# Altium schematic symbol library voltage_regulators.SchLib: 19 symbols
Pins are listed as number, name and electrical type; pins without a type are passive.

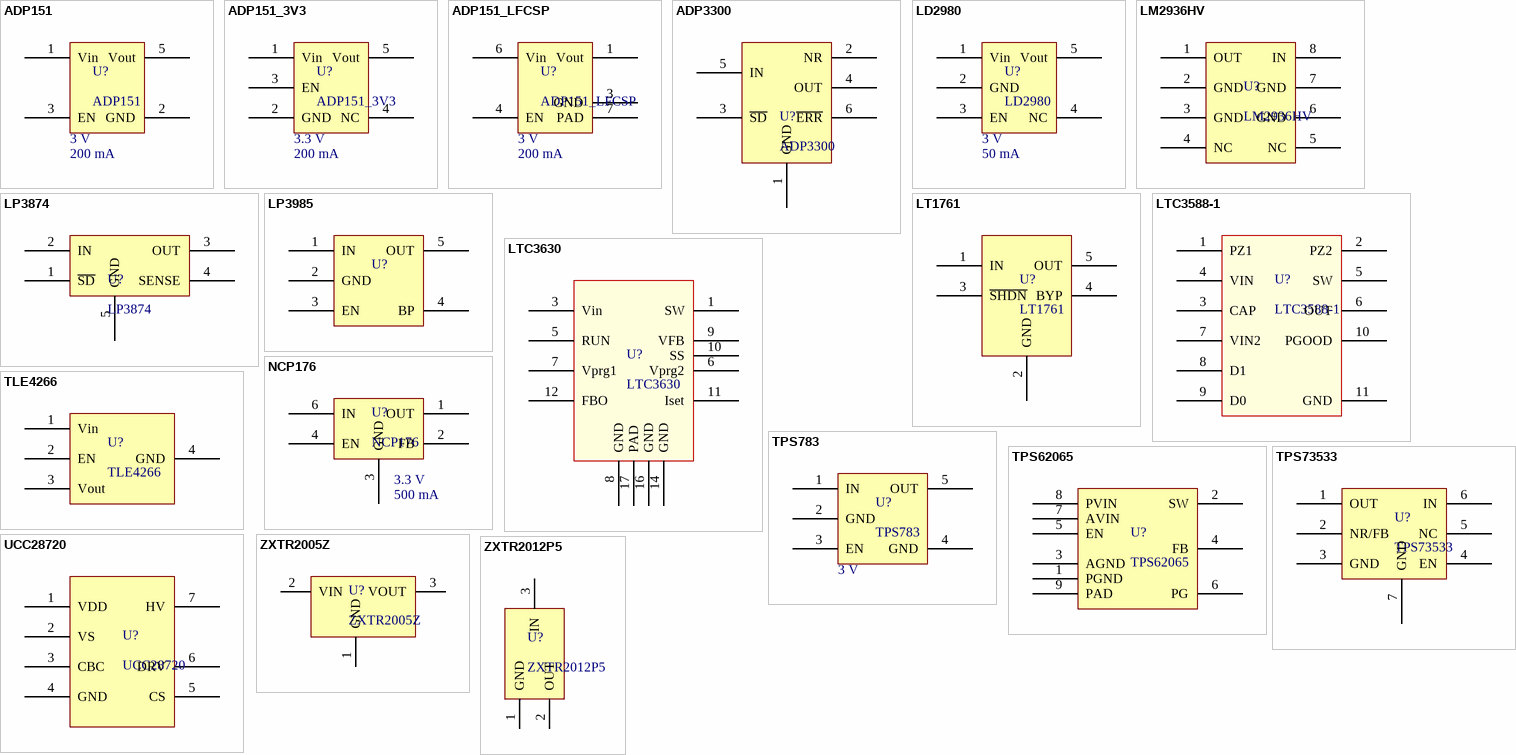
[diagram p0: symbols ADP151 to ZXTR2012P5]

## ADP151
designator U?  Voltage: 3 V  Current: 200 mA
Ultralow Noise, 200 mA,  CMOS Linear Regulator; Supplier 1: Digi-Key; Supplier Part Number 1: ADP151AUJZ-3.0-R7CT-ND
footprint SOT23-5 (SOT23, 5-Leads, Body 2.90x2.45mm, Pitch 0.95mm, IPC Medium Density)
pins: 1 Vin, 2 GND, 3 EN, 5 Vout

## ADP151_3V3
designator U?  Voltage: 3.3 V  Current: 200 mA
Ultralow Noise, 200 mA,  CMOS Linear Regulator; Supplier 1: Digi-Key; Supplier Part Number 1: ADP151AUJZ-3.3-R7CT-ND
footprint SOT23-5 (SOT23, 5-Leads, Body 2.90x2.45mm, Pitch 0.95mm, IPC Medium Density)
pins: 1 Vin, 2 GND, 3 EN, 4 NC, 5 Vout

## ADP151_LFCSP
designator U?  Voltage: 3 V  Current: 200 mA
Ultralow Noise, 200 mA,  CMOS Linear Regulator; Supplier 1: Digi-Key; Supplier Part Number 1: ADP151ACPZ-3.0-R7CT-ND
footprint CP-6-3 (QFN, 6-Leads, Body 2.00x2.00mm, Pitch 0.65mm, Thermal Pad 1.00x1.55mm, IPC Medium Density)
pins: 1 Vout, 3 GND, 4 EN, 6 Vin, 7 PAD

## ADP3300
designator U?
High Accuracy anyCap 50 mA Low Dropout Linear Regulator; Supplier 1: Digi-Key; Supplier Part Number 1: ADP3300ARTZ-5REEL7CT-ND
footprint SOT23-6 (SOT23, 6-Leads, Body 2.90x2.45mm, Pitch 0.95mm, IPC Medium Density)
pins: 1 GND, 2 NR, 3 ~{SD}, 4 OUT, 5 IN, 6 ~{ERR}

## LD2980
designator U?  Voltage: 3 V  Current: 50 mA
Ultra low drop voltage regulators compatible   with low ESR output capacitors; Supplier 1: Digi-Key; Supplier Part Number 1: 497-1516-1-ND
footprint SOT23-5 (SOT23, 5-Leads, Body 2.90x2.45mm, Pitch 0.95mm, IPC Medium Density)
pins: 1 Vin, 2 GND, 3 EN, 4 NC, 5 Vout

## LM2936HV
designator U?
Ultra-Low Quiescent Current LDO Voltage Regulator; Supplier 1: Digi-Key; Supplier Part Number 1: LM2936HVMAX-5.0/NOPBCT-ND
footprint SOIC-8 (SOIC, 8-Leads, Body 4.90x3.90mm, Pitch 1.27mm, IPC Medium Density)
pins: 1 OUT, 2 GND, 3 GND, 4 NC, 5 NC, 6 GND, 7 GND, 8 IN

## LP3874
designator U?
LP387x 0.8-A Fast Ultra-Low-Dropout Linear Regulators; Supplier 1: Digi-Key; Supplier Part Number 1: LP3874EMP-3.3/NOPBCT-ND
footprint SOT150P700X180-5N (SOT223, 5-Leads, Body 6.50x7.00mm (avg), Pitch 1.50mm, IPC Medium Density)
pins: 1 ~{SD}, 2 IN, 3 OUT, 4 SENSE, 5 GND

## LP3985
designator U?  (value not drawn)
LP3985 Micropower, 150-mA Low-Noise Ultra Low-Dropout CMOS Voltage Regulator; Supplier 1: Digi-Key; Supplier Part Number 1: LP3985IM5-3.3/NOPBCT-ND
footprint SOT23-5 (SOT23, 5-Leads, Body 2.90x2.45mm, Pitch 0.95mm, IPC Medium Density)
pins: 1 IN, 2 GND, 3 EN, 4 BP, 5 OUT

## LT1761
designator U?
100mA, Low Noise,  LDO Micropower  Regulators in TSOT-23; Supplier 1: Digi-Key; Supplier Part Number 1: LT1761ES5-5#TRPBFCT-ND
footprint TSOT-23-5 (SOT23, 5-Leads, Body 2.90x2.80mm, Pitch 0.95mm, IPC Medium Density)
pins: 1 IN, 2 GND, 3 ~{SHDN}, 4 BYP, 5 OUT

## LTC3588-1
designator U?
Piezoelectric Energy   Harvesting Power Supply; Supplier 1: Digi-Key; Supplier Part Number 1: LTC3588EMSE-1#PBF-ND; Supplier 2: Digi-Key; Supplier Part Number 2: LTC3588EDD-1#PBF-ND
footprint TSSOP50P490X110_HS-11N (TSSOP, 10-Leads, Body 3.00x3.00mm, Pitch 0.50mm, Thermal Pad 1.88.2x1.68.2mm, IPC Medium Density)
footprint QFN-10 (QFN, 10-Leads, Body 4.00x4.00mm, Pitch 0.50mm, Thermal Pad 1.65x2.38mm, IPC Medium Density)
pins: 1 PZ1, 2 PZ2, 3 CAP, 4 VIN, 5 SW, 6 OUT, 7 VIN2, 8 D1, 9 D0, 10 PGOOD, 11 GND

## LTC3630
designator U?
High Efficiency, 65V 500mA synchronous Step-Down Converter; Supplier 1: Digi-Key; Supplier Part Number 1: LTC3630EMSE#PBF-ND
footprint MSE16(12) (TSSOP, 16-Leads, Body 4.04x3.00mm, Pitch 0.50mm, Thermal Pad 2.95x1.75mm, IPC Medium Density)
pins: 1 SW, 3 Vin, 5 RUN, 6 Vprg2, 7 Vprg1, 8 GND, 9 VFB, 10 SS, 11 Iset, 12 FBO, 14 GND, 16 GND, 17 PAD

## NCP176
designator U?  Voltage: 3.3 V  Current: 500 mA
Fast Transient Response  Low Voltage 500 mA LDO; Supplier 1: Digi-Key; Supplier Part Number 1: NCP176AMX330TCGOSCT-ND
footprint XDFN6
pins: 1 OUT, 2 FB, 3 GND, 4 EN, 6 IN, 7 GND

## TLE4266
designator U?
5 V/10 V Low Drop Voltage Regulator; Supplier 1: Digi-Key; Supplier Part Number 1: TLE4266GCT-ND
footprint SOT223 (SOT223, 4-Leads, Body 6.50x7.00mm (avg), Pitch 2.30mm, IPC Medium Density)
pins: 1 Vin, 2 EN, 3 Vout, 4 GND

## TPS783
designator U?  Output Voltage: 3 V
TPS783xx 500-nA IQ, 150-mA, Ultralow Quiescent Current  Low-Dropout Linear Regulator; Supplier 1: Digi-Key; Supplier Part Number 1: 296-25880-1-ND
footprint SOT23-5 (SOT23, 5-Leads, Body 2.90x2.45mm, Pitch 0.95mm, IPC Medium Density)
pins: 1 IN, 2 GND, 3 EN, 4 GND, 5 OUT

## TPS62065
designator U?
3-MHz, 2-A, Step-Down Converter; Supplier 1: Digi-Key; Supplier Part Number 1: 296-27204-1-ND
footprint PWSON-8 (PSON, 8-Leads, Body 2.00x2.00mm, Pitch 0.50mm, Thermal Pad 1.60x0.82mm, IPC Medium Density)
pins: 1 PGND, 2 SW, 3 AGND, 4 FB, 5 EN, 6 PG, 7 AVIN, 8 PVIN, 9 PAD

## TPS73533
designator U?
500mA, Low Quiescent Current, Ultra-Low Noise, High PSRR  Low-Dropout Linear Regulator; Supplier 1: Digi-Key; Supplier Part Number 1: 296-24289-1-ND
footprint SON-6 (SON, 6-Leads, Body 2.00x2.00mm, Pitch 0.65mm, Thermal Pad 1.60x0.89mm, IPC Medium Density)
pins: 1 OUT, 2 NR/FB, 3 GND, 4 EN, 5 NC, 6 IN, 7 GND

## UCC28720
designator U?
Constant-Voltage, Constant-Current Controller With Primary-Side Regulation; Supplier 1: Digi-Key; Supplier Part Number 1: 296-41058-1-ND
footprint SOIC-7 (SOIC, 7-Leads, Body 4.90x3.90mm, Pitch 1.27mm, IPC Medium Density)
pins: 1 VDD, 2 VS, 3 CBC, 4 GND, 5 CS, 6 DRV, 7 HV

## ZXTR2005Z
designator U?
100V INPUT, 5V 30mA REGULATOR TRANSISTOR; Supplier 1: Digi-Key; Supplier Part Number 1: ZXTR2005Z-13DICT-ND
footprint SOT89 (SOT89, 3-Leads, Body 4.50x2.45mm, Pitch 1.50mm, Lead Span 4.1mm, IPC Medium Density)
pins: 1 GND, 2 VIN, 3 VOUT

## ZXTR2012P5
designator U?
100V INPUT, 12V 40mA REGULATOR TRANSISTOR; Supplier 1: Digi-Key; Supplier Part Number 1: ZXTR2012P5-13DICT-ND
footprint PowerDI-5 (PowerDI-5 from diode inc)
pins: 1 GND, 2 OUT, 3 IN